# EAGLE library part MOLEX_5009010801 (library Simplex-Connectors)
Molex 5009010801 1.10mm Pitch TransFlash Memory Card Connector, Hinge Type
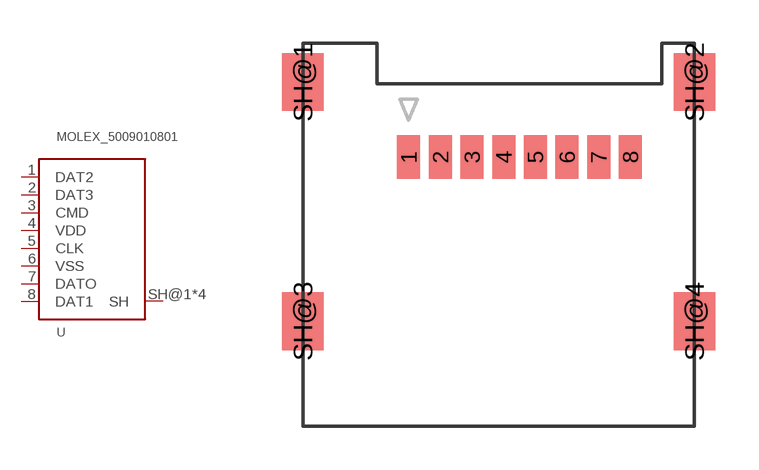
[diagram p7: symbol with the pads of MOLEX_5009010801; footprint MOLEX_5009010801]

Designator prefix -

## MOLEX_5009010801  [MOLEX_5009010801]
1  DAT2
2  DAT3
3  CMD
4  VDD
5  CLK
6  VSS
7  DATO
8  DAT1
SH@1  SH
SH@2  SH
SH@3  SH
SH@4  SH

## Footprint MOLEX_5009010801 (pad centres in mm)
Molex 5009010801 1.10mm Pitch TransFlash Memory Card Connector, Hinge Type
smd 0.8 x 1.5: 1 0,0; 2 1.1,0; 3 2.2,0; 4 3.3,0; 5 4.4,0; 6 5.5,0; 7 6.6,0; 8 7.7,0
smd 1.45 x 2: SH@1 -3.675,2.6; SH@2 9.925,2.6; SH@3 -3.675,-5.7; SH@4 9.925,-5.7